# Altium integrated library Network_Res.IntLib: 5 symbols
Pins are listed as number, name and electrical type; pins without a type are passive.

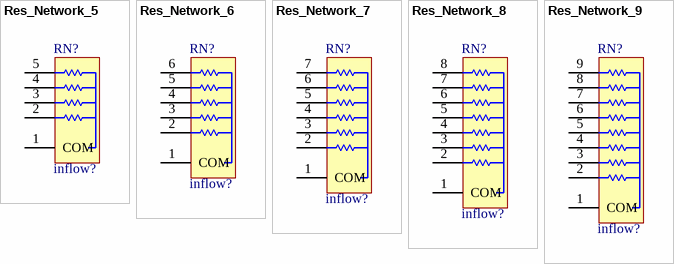
[diagram p0: symbols Res_Network_5 to Res_Network_9]

## Res_Network_5
designator RN?, comment Inflow: inflow?  (hidden comment: Value?)
Array resistor x5; Rating: Rating?; Package: Package?; Type: Type?; Value: Value?
footprint Resistor Array 5N (Resistor Networks, P2.54mm)
pins: 1 COM, 2 R1, 3 R2, 4 R3, 5 R4

## Res_Network_6
designator RN?, comment Inflow: inflow?  (hidden comment: Value?)
Array resistor x6; Rating: Rating?; Package: Package?; Type: Type?; Value: Value?
footprint Resistor Array 6N (Resistor Networks, P2.54mm)
pins: 1 COM, 2 R1, 3 R2, 4 R3, 5 R4, 6 R5

## Res_Network_7
designator RN?, comment Inflow: inflow?  (hidden comment: Value?)
Array resistor x7; Rating: Rating?; Package: Package?; Type: Type?; Value: Value?
footprint Resistor Array 7N (Resistor Networks, P2.54mm)
pins: 1 COM, 2 R1, 3 R2, 4 R3, 5 R4, 6 R5, 7 R6

## Res_Network_8
designator RN?, comment Inflow: inflow?  (hidden comment: Value?)
Array resistor x8; Rating: Rating?; Package: Package?; Type: Type?; Value: Value?
footprint Resistor Array 8N (Resistor Networks, P2.54mm)
pins: 1 COM, 2 R1, 3 R2, 4 R3, 5 R4, 6 R5, 7 R6, 8 R7

## Res_Network_9
designator RN?, comment Inflow: inflow?  (hidden comment: Value?)
Array resistor x9; Rating: Rating?; Package: Package?; Type: Type?; Value: Value?
footprint Resistor Array 9N (Resistor Networks, P2.54mm)
pins: 1 COM, 2 R1, 3 R2, 4 R3, 5 R4, 6 R5, 7 R6, 8 R7, 9 R8